# Altium schematic symbol library PowerMangment.SchLib: 25 symbols
Pins are listed as number, name and electrical type; pins without a type are passive.

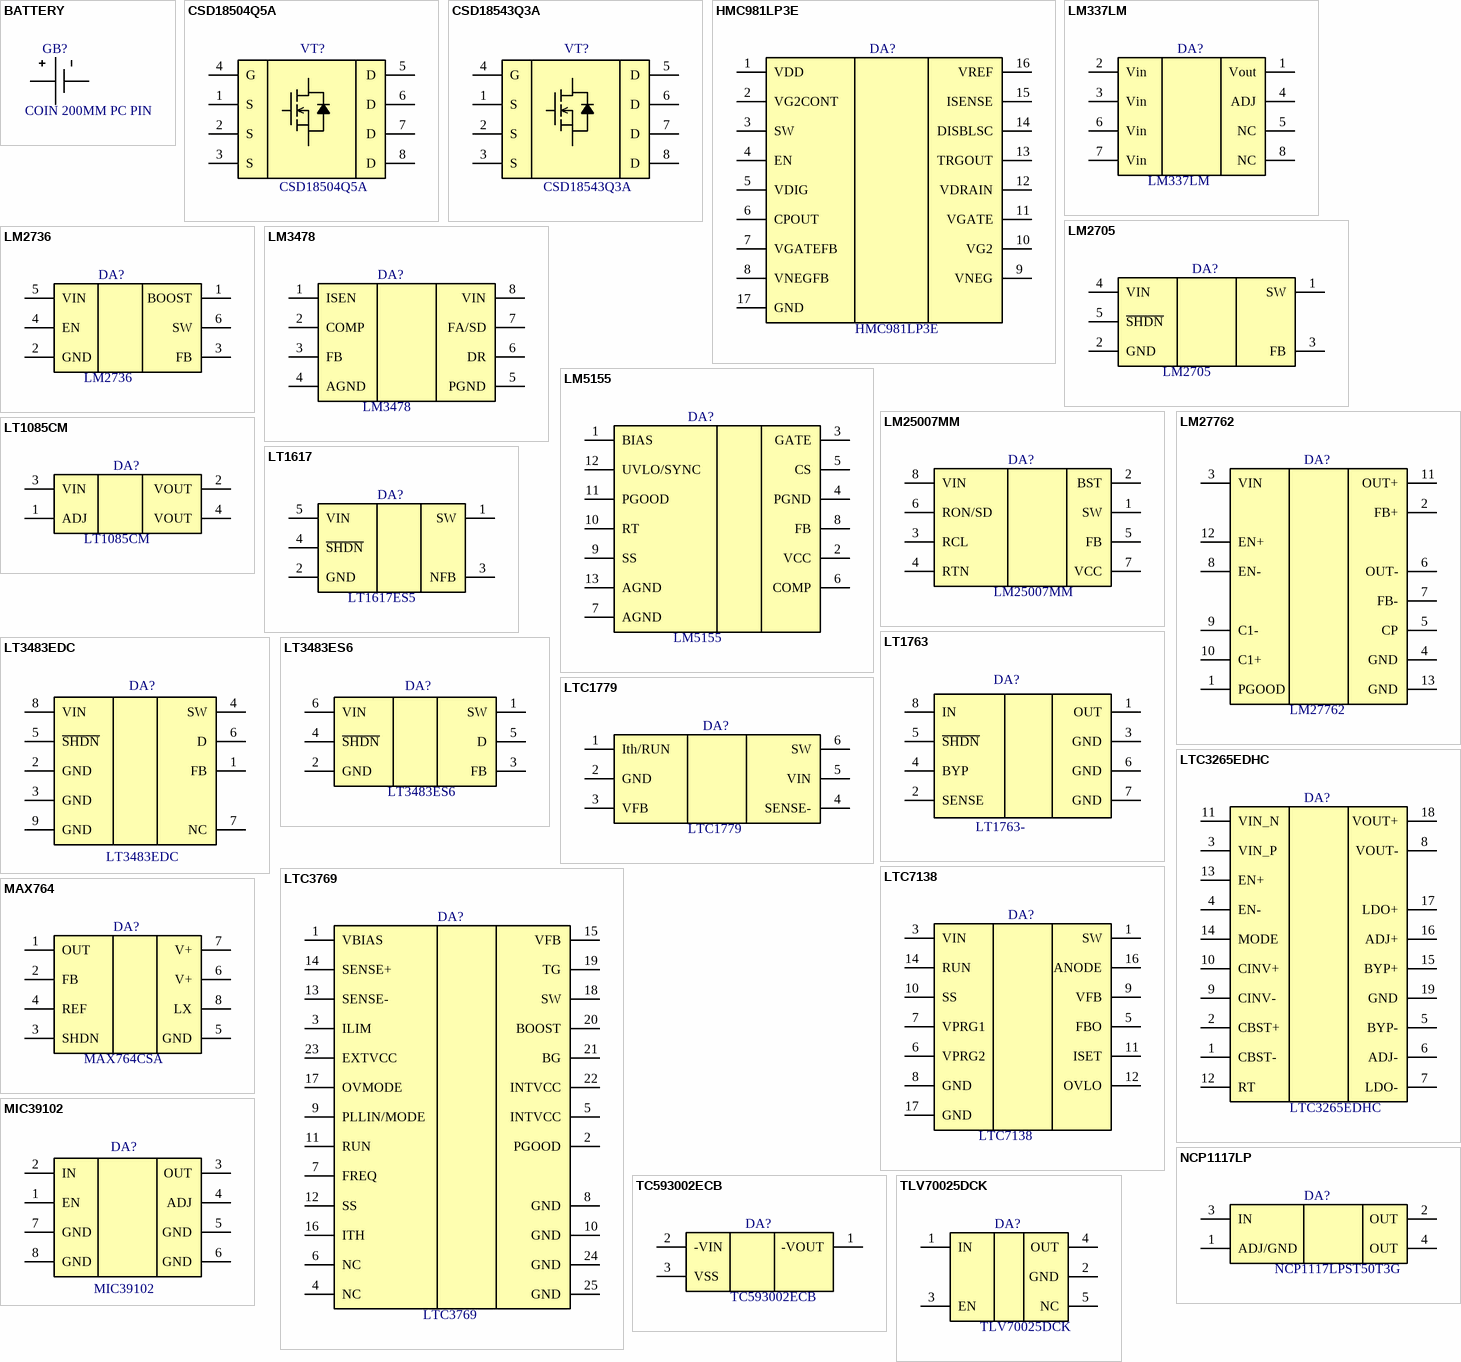
[diagram p0: symbols BATTERY to TLV70025DCK]

## BATTERY
designator GB?, comment COIN 200MM PC PIN
Battery Holder; PartNumber: 120591-1; Manufacturer: TE Connectivity; BatteryType: COIN 200MM PC PIN; Supplier 1: Digi-Key; Supplier Part Number 1: A99328-ND
footprint TECO-120591-1-2_V (Lithium Battery Holder)
pins: 1, 2

## CSD18504Q5A
designator VT?
40-V N-Channel NexFET™ Power MOSFET; Manufacturer: Texas Instruments; PartNumber: CSD18504Q5A
footprint CSD18504Q5A (Texus Instruments Q5A Package)
pins: 1 S, 2 S, 3 S, 4 G, 5 D, 6 D, 7 D, 8 D

## CSD18543Q3A
designator VT?
60-V N-Channel NexFET™ Power MOSFET; Manufacturer: Texas Instruments; PartNumber: CSD18543Q3A
footprint CSD18543Q3A (Texas Instruments Q3A Package)
pins: 1 S, 2 S, 3 S, 4 G, 5 D, 6 D, 7 D, 8 D

## HMC981LP3E
designator DA?
ACTIVE BIAS CONTROLLER; Manufacturer: Analog Devices; PartNumber: HMC981LP3E; ComponentLink1Description: Product Page; ComponentLink1URL: https://www.analog.com/en/products/hmc981lp3e.html#product-overview; ComponentLink2Description: DataSheet; ComponentLink2URL: https://www.analog.com/media/en/technical-documentation/data-sheets/hmc981.pdf
footprint QFN17P50_300X300X100L40X24T173N (Quad Flat No-Lead (QFN with Tab), 0.50 mm pitch; square, 4 pin X 4 pin, 3.00 mm L X 3.00 mm W X 1.00 mm H body)
pins: 1 VDD, 2 VG2CONT, 3 SW, 4 EN, 5 VDIG, 6 CPOUT, 7 VGATEFB, 8 VNEGFB, 9 VNEG, 10 VG2, 11 VGATE, 12 VDRAIN, 13 TRGOUT, 14 DISBLSC, 15 ISENSE, 16 VREF, 17 GND

## LM337LM
designator DA?
Negative 3-Terminal Adjustable Regulator; Manufacturer: Texas Instruments; ComponentLink1Description: DataSheet; ComponentLink1URL: -TerminalAdjustableRegulator; PartNumber: LM337LM
footprint SOIC8P127_490X600X175L83X41N (Small Outline IC (SOIC), 1.27 mm pitch; 8 pin, 4.90 mm L X 3.90 mm W X 1.75 mm H body)
pins: 1 Vout, 2 Vin, 3 Vin, 4 ADJ, 5 NC, 6 Vin, 7 Vin, 8 NC

## LM2705
designator DA?
Micropower Step-Up DC-DC Converter With 150-mA Peak Current Limit; Manufacturer: Texas Instruments; PartNumber: LM2705
footprint SOT23-5P95_280X145L60X40N (Small Outline Transistor (SOT23), 0.95 mm pitch; 5 pin, 2.90 mm L X 1.60 mm W X 1.45 mm H body)
pins: 1 SW, 2 GND, 3 FB, 4 VIN, 5 ~{SHDN}

## LM2736
designator DA?
LM2736Thin SOT 750 mA Load Step-DownDC-DCRegulator; Manufacturer: Texas Instruments; PartNumber: LM2736; ComponentLink1Description: Product Page; ComponentLink1URL: https://www.ti.com/product/LM2736?keyMatch=LM2736&tisearch=Search-EN-everything&usecase=GPN
footprint SOT23-6P95_280X110L45X40N (Small Outline Transistor (SOT23), 0.95 mm pitch; 6 pin, 2.90 mm L X 1.60 mm W X 1.10 mm H body)
pins: 1 BOOST, 2 GND, 3 FB, 4 EN, 5 VIN, 6 SW

## LM3478
designator DA?
High-Efficiency Low-Side N-Channel Controller for Switching Regulator; Manufacturer: Texas Instruments; PartNumber: LM3478
footprint SOIC8P127_490X600X175L83X41N (Small Outline IC (SOIC), 1.27 mm pitch; 8 pin, 4.90 mm L X 3.90 mm W X 1.75 mm H body)
footprint SOP8P65_300X490X110L55X31N (Small Outline Pkg (SOP), 0.65 mm pitch; 8 pin, 3.00 mm L X 3.00 mm W X 1.10 mm H body)
pins: 1 ISEN, 2 COMP, 3 FB, 4 AGND, 5 PGND, 6 DR, 7 FA/SD, 8 VIN

## LM5155
designator DA?
LM5155 2.2-MHz Wide Input Nonsynchronous Boost, SEPIC, Flyback Controller; Manufacturer: Texas Instruments; PartNumber: LM5155
footprint SON13P50_300X200X80L30X25T265X100N (Small Outline No-Lead (SON with Tab), 0.50 mm pitch; 12 pin, 3.00 mm L X 2.00 mm W X 0.80 mm H body)
pins: 1 BIAS, 2 VCC, 3 GATE, 4 PGND, 5 CS, 6 COMP, 7 AGND, 8 FB, 9 SS, 10 RT, 11 PGOOD, 12 UVLO/SYNC, 13 AGND

## LM25007MM
designator DA?
LM25007 42V, 0.5A Step-Down Switching Regulator; Manufacturer: Texas Instruments; PartNumber: LM25007MM
footprint SOP8P65_300X490X110L55X31N (Small Outline Pkg (SOP), 0.65 mm pitch; 8 pin, 3.00 mm L X 3.00 mm W X 1.10 mm H body)
pins: 1 SW, 2 BST, 3 RCL, 4 RTN, 5 FB, 6 RON/SD, 7 VCC, 8 VIN

## LM27762
designator DA?
Low-Noise Positive- and Negative-Output Charge Pump With Integrated LDO; Manufacturer: Texas Instruments; PartNumber: LM27762; ComponentLink1Description: Part Site; ComponentLink1URL: https://www.ti.com/product/LM27762
footprint SON13P50_300X200X80L30X25T265X100N (Small Outline No-Lead (SON with Tab), 0.50 mm pitch; 12 pin, 3.00 mm L X 2.00 mm W X 0.80 mm H body)
pins: 1 PGOOD, 2 FB+, 3 VIN, 4 GND, 5 CP, 6 OUT-, 7 FB-, 8 EN-, 9 C1-, 10 C1+, 11 OUT+, 12 EN+, 13 GND

## LT1085CM
designator DA?
3A Low Dropout Positive Adjustable Regulators; Manufacturer: Analog Devices; PartNumber: LT1085CM
footprint DPAK4P254_1390X460L127X127T770X1070N (DPAK, 2.54 mm pitch; 3 pin, 8.90 mm L X 10.20 mm W X 4.60 mm H body)
pins: 1 ADJ, 2 VOUT, 3 VIN, 4 VOUT

## LT1617
designator DA?, comment LT1617ES5
Micropower Inverting DC/DC Converters in SOT-23; Manufacturer: Analog Devices; PartNumber: LT1617ES5
footprint SOT23-5P95_280X145L35X42N (Small Outline Transistor (SOT23), 0.95 mm pitch; 5 pin, 2.90 mm L X 1.625 mm W X 1.45 mm H body)
pins: 1 SW, 2 GND, 3 NFB, 4 ~{SHDN}, 5 VIN

## LT1763
designator DA?, comment LT1763-
Micropower DC/DC Converters in SOIC8; Manufacturer: Analog Devices
footprint SOIC8P127_490X600X175L83X41N (Small Outline IC (SOIC), 1.27 mm pitch; 8 pin, 4.90 mm L X 3.90 mm W X 1.75 mm H body)
pins: 1 OUT, 2 SENSE, 3 GND, 4 BYP, 5 ~{SHDN}, 6 GND, 7 GND, 8 IN

## LT3483EDC
designator DA?
Inverting Micropower DC/DC Converters with Schottky; Manufacturer: Analog Devices; PartNumber: LT3483EDC
footprint SON9P45_200X200X80L40X23T137X64N (Small Outline No-Lead (SON with Tab), 0.45 mm pitch; 8 pin, 2.00 mm L X 2.00 mm W X 0.80 mm H body)
pins: 1 FB, 2 GND, 3 GND, 4 SW, 5 ~{SHDN}, 6 D, 7 NC, 8 VIN, 9 GND

## LT3483ES6
designator DA?
Inverting Micropower DC/DC Converters with Schottky; Manufacturer: Analog Devices; PartNumber: LT3483ES6
footprint SOP6P95_290X280X100L40X37N (Small Outline Pkg (SOP), 0.95 mm pitch; 6 pin, 2.90 mm L X 1.625 mm W X 1.00 mm H body)
pins: 1 SW, 2 GND, 3 FB, 4 ~{SHDN}, 5 D, 6 VIN

## LTC1779
designator DA?
250mA Current Mode Step-Down DC/DC Converter; Manufacturer: Analog Devices; PartNumber: LTC1779
footprint SOP6P95_290X280X100L40X37N (Small Outline Pkg (SOP), 0.95 mm pitch; 6 pin, 2.90 mm L X 1.625 mm W X 1.00 mm H body)
pins: 1 Ith/RUN, 2 GND, 3 VFB, 4 SENSE-, 5 VIN, 6 SW

## LTC3265EDHC
designator DA?
Low Noise Dual Supply  with Boost and Inverting Charge Pumps; Manufacturer: Analog Devices; PartNumber: LTC3265EDHC
footprint SON19P50_500X300X80L40X25T440X165N (Small Outline No-Lead (SON with Tab), 0.50 mm pitch; 18 pin, 5.00 mm L X 3.00 mm W X 0.80 mm H body)
pins: 1 CBST-, 2 CBST+, 3 VIN_P, 4 EN-, 5 BYP-, 6 ADJ-, 7 LDO-, 8 VOUT-, 9 CINV-, 10 CINV+, 11 VIN_N, 12 RT, 13 EN+, 14 MODE, 15 BYP+, 16 ADJ+, 17 LDO+, 18 VOUT+, 19 GND

## LTC3769
designator DA?
60V Low IQ Synchronous  Boost Controller; Manufacturer: Analog Devices; PartNumber: LTC3769
footprint QFN25P50_400X400X80L40X25T245N (Quad Flat No-Lead (QFN with Tab), 0.50 mm pitch; square, 6 pin X 6 pin, 4.00 mm L X 4.00 mm W X 0.80 mm H body)
pins: 1 VBIAS, 2 PGOOD, 3 ILIM, 4 NC, 5 INTVCC, 6 NC, 7 FREQ, 8 GND, 9 PLLIN/MODE, 10 GND, 11 RUN, 12 SS, 13 SENSE-, 14 SENSE+, 15 VFB, 16 ITH, 17 OVMODE, 18 SW, 19 TG, 20 BOOST, 21 BG, 22 INTVCC, 23 EXTVCC, 24 GND, 25 GND

## LTC7138
designator DA?
High Efficiency, 140V 400mA Step-Down Regulator; Manufacturer: Analog Devices; PartNumber: LTC7138
footprint MSE16 (12) (Small Outline Pkg (SOP with Tab), 0.50 mm pitch; 12 pin, 4.04 mm L X 3.00 mm W X 1.10 mm H body)
pins: 1 SW, 3 VIN, 5 FBO, 6 VPRG2, 7 VPRG1, 8 GND, 9 VFB, 10 SS, 11 ISET, 12 OVLO, 14 RUN, 16 ANODE, 17 GND

## MAX764
designator DA?, comment MAX764CSA
DC-DC Inverter; Manufacturer: Maxim Integrated; ComponentLink1Description: DataSheet; ComponentLink1URL: https://www.farnell.com/datasheets/9911.pdf; PartNumber: MAX764CSA
footprint SOIC127P600X175-8N (SOIC, 8-Leads, Body 4,90x3,90mm, Pitch 1,27mm, IPC Medium Density)
pins: 1 OUT, 2 FB, 3 SHDN, 4 REF, 5 GND, 6 V+, 7 V+, 8 LX

## MIC39102
designator DA?
1A Low-Voltage Low-Dropout Regulator, Adj; Manufacturer: Microchip; PartNumber: MIC39102
footprint SOIC127P600X160-8N (SOIC, 8-Leads, Body 4.90x3.90mm, Pitch 1.27mm, IPC Medium Density)
pins: 1 EN, 2 IN, 3 OUT, 4 ADJ, 5 GND, 6 GND, 7 GND, 8 GND
text: Text

## NCP1117LP
designator DA?, comment NCP1117LPST50T3G
1.0 A Low-Dropout Positive / Fixed and Adjustable / Voltage Regulators; Manufacturer: On Semiconductor; PartNumber: NCP1117LPST50T3G
footprint SOT223-4P230_700X180L92X74N (Small Outline Transistor (SOT223), 2.30 mm pitch; 4 pin, 6.50 mm L X 3.50 mm W X 1.80 mm H body)
pins: 1 ADJ/GND, 2 OUT, 3 IN, 4 OUT

## TC593002ECB
designator DA?
Low Dropout, Negative Output Voltage Regulator, -3V fixed; Manufacturer: Microchip; PartNumber: TC593002ECB
footprint SOT23-3P95_275X130L45X40N (Small Outline Transistor (SOT23), 0.95 mm pitch; 3 pin, 2.90 mm L X 1.60 mm W X 1.30 mm H body)
pins: 1 -VOUT, 2 -VIN, 3 VSS

## TLV70025DCK
designator DA?
200-mA,Low-IQ, Low-Dropout Regulator for Portable Devices; Manufacturer: Texas Instruments; PartNumber: TLV70025DCK; ComponentLink1Description: Datasheet; ComponentLink1URL: https://www.ti.com/lit/ds/symlink/tlv700.pdf
footprint SOT23-5P65_210X110L36X22N (Small Outline Transistor (SOT23), 0.65 mm pitch; 5 pin, 2.00 mm L X 1.25 mm W X 1.10 mm H body)
pins: 1 IN, 2 GND, 3 EN, 4 OUT, 5 NC